# Altium schematic symbol library C2C5C10.SchLib: 1 symbol
Pins are listed as number, name and electrical type; pins without a type are passive.

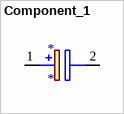
[diagram p0: symbol Component_1]

## Component_1
designator *
footprint RCE7U2J103J3K1H03B
pins: 1 +, 2 -